# Altium schematic symbol library Diodes.SchLib: 1 symbol
Pins are listed as number, name and electrical type; pins without a type are passive.

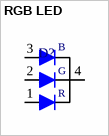
[diagram p0: symbol RGB LED]

## RGB LED
designator D?, comment XZM2CRKM2DGFBB45SCCB  (value not drawn)
LED RGB CLEAR 4PLCC SMD; Manufacturer: SunLED; Description: Red, Green, Blue (RGB) 625nm Red, 525nm Green, 470nm Blue LED Indication - Discrete 2.2V Red, 3.2V Green, 3.3V Blue 4-PLCC; Color: Red, Green, Blue (RGB); Lens Color: Colorless; Millicandela Rating: 497mcd Red, 1590mcd Green, 327mcd Blue; Lens Style/Size: Round with Flat Top, 2.40mm; Voltage - Forward (Vf) (Typ): 2.2V Red, 3.2V Green, 3.3V Blue; Current - Test: 20mA Red, 20mA Green, 20mA Blue; Viewing Angle: 120°; Wavelength - Dominant: 625nm Red, 525nm Green, 470nm Blue; Wavelength - Peak: 640nm Red, 520nm Green, 465nm Blue; Published: 8-Jun-2000; LatestRevisionDate: 17-Jul-2002; LatestRevisionNote: Re-released for DXP Platform.; PackageVersion: Feb-2002; PackageReference: 3.2X1.6X1.1; Publisher: Altium Limited; PackageDescription: SM LED; 2 Flat Leads; Supplier 1: Digikey; Manufacturer Part Number: XZM2CRKM2DGFBB45SCCB; Stock 1: 1257; Pricing 1: 1=1.17, 10=0.947, 25=0.7288, 100=0.6559, 250=0.583, 500=0.4956, 1000=0.4081 (USD); Category: Optoelectronics; Family: LED Indication - Discrete; Series: -; Packaging: Tape &amp; Reel (TR); Lens Transparency: Clear; Mounting Type: Surface Mount; Features: -; Package / Case: 4-PLCC; Supplier Device Package: 4-PLCC; Size / Dimension: 3.20mm L x 2.80mm W; Height (Max): 2.10mm; Supplier Part Number 1: 1497-1225-1-ND
footprint SUN_PLCC4 (3.5x2.8mm PLCC4 SMD LED)
pins: 1 A1, 2 A2, 3 A3, 4 K
text: B; G; R